# Altium integrated library LM358N.IntLib: 1 symbol
Pins are listed as number, name and electrical type; pins without a type are passive.

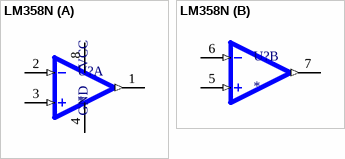
[diagram p0: symbol LM358N]

## LM358N
designator U?
IC OPAMP GP 8DIP; MF: STMicroelectronics; MP: LM358N; SnapEDA_Link: https://www.snapeda.com/parts/LM358N/STMicroelectronics/view-part/?ref=snap; Package: PDIP-8 Texas; Value: *; Check_prices: https://www.snapeda.com/parts/LM358N/STMicroelectronics/view-part/?ref=eda
footprint DIP762W46P254L960H508Q8
part A pins: 1 1OUT (out), 2 1IN- (in), 3 1IN+ (in), 4 GND (power), 8 VCC (power)
part B pins: 5 2IN+ (in), 6 2IN- (in), 7 2OUT (out)